# EAGLE library part CAT16-J4 (library toyotune)
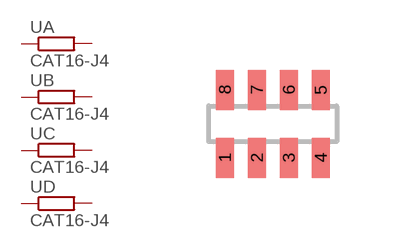
[diagram p27: symbol with the pads of CAT16-J4; footprint CAT16-J4]

Designator prefix -; gates A=R-EU-1 B=R-EU-1 C=R-EU-1 D=R-EU-1

## CAT16-J4  [CAT16-J4]
1  A:1  pas
2  B:1  pas
3  C:1  pas
4  D:1  pas
5  D:2  pas
6  C:2  pas
7  B:2  pas
8  A:2  pas

## Footprint CAT16-J4 (pad centres in mm)
smd 0.45 x 1: 1 -1.2,-0.8; 2 -0.4,-0.8; 3 0.4,-0.8; 4 1.2,-0.8; 5 1.2,0.9; 6 0.4,0.9; 7 -0.4,0.9; 8 -1.2,0.9